# Altium schematic symbol library MAL205859471E3.SchLib: 1 symbol
Pins are listed as number, name and electrical type; pins without a type are passive.

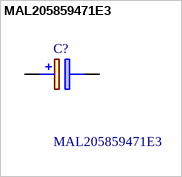
[diagram p0: symbol MAL205859471E3]

## MAL205859471E3
designator C?
Aluminum Electrolytic Capacitors - Snap In 470uF 100V 22x30mm; Manufacturer_Name: Vishay; Geometry.Height: 32mm; Manufacturer_Part_Number: MAL205859471E3; Mouser Part Number: 594-MAL205859471E3; Mouser Price/Stock: https://www.mouser.co.uk/ProductDetail/Vishay-BC-Components/MAL205859471E3?qs=r0NmvwWPm2x5ZydH7o9G6A%3D%3D; Arrow Part Number: *; Arrow Price/Stock: *; Datasheet Link: https://www.vishay.com/docs/28342/058059pll-si.pdf
footprint CAPPRD1000W190D2200H3200
pins: 1 +, 2 -